# Altium footprint library Movandi_10.PcbLib: 10 footprints
Each footprint in its own frame and in the unit in brackets; x right, y up, seen from the top. Pads: shape width x height; smd on the part's side, far side on the other; paste and mask are expansions set on the pad; w line width, h text height; cw(c..) or ccw(c..) is an arc to the next point about the centre after c.
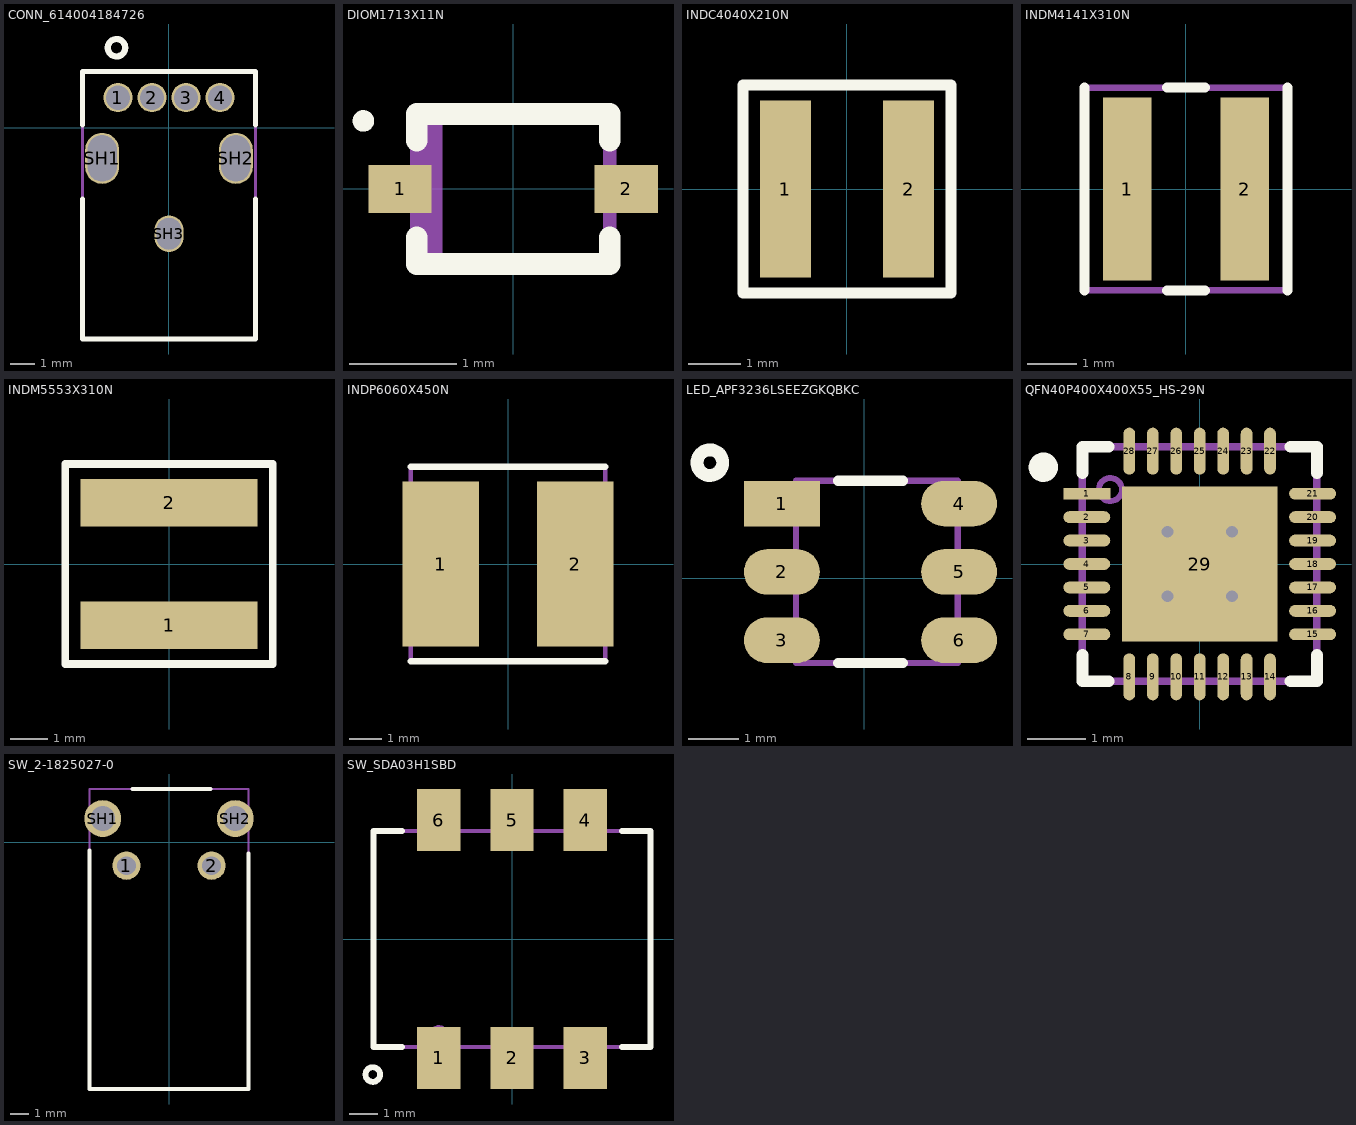
[diagram p0: the footprints below, top view; thin cyan lines are the x and y axes]

## CONN_614004184726 [mm]
height 14.2
pads (7):
  round 1.2 hole 1: 1(-2.1,1.25) 2(-0.7,1.25) 3(0.7,1.25) 4(2.1,1.25)
  oval 1.4x2.1 hole 1.2 slot 1.9 at 90 deg: SH1(-2.75,-1.25) SH2(2.75,-1.25)
  oval 1.2x1.5 hole 1 slot 1.3 at 90 deg: SH3(0,-4.35)
Top Overlay:
  circle w0.254: c-2.159,3.302 r0.359
  lines w0.203: -3.559,-2.921 -3.559,-8.682 3.559,-8.682 3.559,-2.921 ; -3.559,0.127 -3.559,2.318 3.559,2.318 3.559,0.127
Outline:
  text "'.Designator'" at 0,0.191 h1.02
Courtyard Top:
  circle w0.254: c-2.1,1.25 r0.359
  lines w0.127: -3.559,-8.682 3.559,-8.682 3.559,2.318 -3.559,2.318 -3.559,-8.682
3D body: height 14.15, standoff -2.89, extent -3.559,-8.682 3.559,2.318

## DIOM1713X11N [mm] "Molded Diode, 2-Leads, Body 1.70x1.30mm, IPC Medium Density"
height 1.1
pads (2):
  rect 0.59x0.45 smd: 1(-1.055,0) 2(1.055,0)
Top Overlay:
  circle w0.1: c-1.397,0.635 r0.05
  lines w0.203: -0.9,-0.452 -0.9,-0.7 0.9,-0.7 0.9,-0.452 ; -0.9,0.452 -0.9,0.7 0.9,0.7 0.9,0.452
Outline:
  text "'.Designator'" at 0,0.191 h1.02
Courtyard Top:
  circle w0.1: c-1.055,0 r0.05
  rectangle: -0.9,-0.7 -0.658,0.7
  lines w0.127: -0.9,-0.7 0.9,-0.7 0.9,0.7 -0.9,0.7 -0.9,-0.7
3D body: height 1.1, standoff 0, extent -1.12,-0.7 1.12,0.7

## INDC4040X210N [mm]
height 2.1
pads (2):
  rect 0.98x3.4 smd: 1(-1.185,0) 2(1.185,0)
Top Overlay:
  lines w0.203: -2,-2 -2,2 2,2 2,-2 -2,-2
Outline:
  text ".Designator" at 0,0 h1.52
Courtyard Top:
  lines w0.127: -2,-2 0,-2 2,-2 2,0 2,2 0,2 -2,2 -2,0 -2,-2
3D body: height 2.1, standoff 0, extent -2,-2 2,2

## INDM4141X310N [mm]
height 3.1
pads (2):
  rect 0.98x3.7 smd mask+0.102: 1(-1.185,0) 2(1.185,0)
Top Overlay:
  lines w0.203: -2.05,-2.05 -2.05,2.05 ; -0.381,-2.05 0.381,-2.05 ; -0.381,2.05 0.381,2.05 ; 2.05,-2.05 2.05,2.05
Outline:
  text "'.Designator'" at 0,0 h1.52
Courtyard Top:
  lines w0.127: -2.05,-2.05 -2.05,0 -2.05,2.05 0,2.05 2.05,2.05 2.05,0 2.05,-2.05 0,-2.05 -2.05,-2.05
3D body: height 3.1, standoff 0, extent -2.05,-2.05 2.05,2.05

## INDM5553X310N [mm]
height 2.9
pads (2):
  rect 4.7x1.25 smd: 1(0,-1.625) 2(0,1.625)
Top Overlay:
  lines w0.203: -2.75,-2.65 2.75,-2.65 2.75,2.65 -2.75,2.65 -2.75,-2.65
Outline:
  text ".Designator" at 0,0 h1.52
Courtyard Top:
  lines w0.127: -2.75,-2.65 0,-2.65 2.75,-2.65 2.75,0 2.75,2.65 0,2.65 -2.75,2.65 -2.75,0 -2.75,-2.65
3D body: height 3.1, standoff 0, extent -2.75,-2.65 2.75,2.65

## INDP6060X450N [mm]
height 4.5
pads (2):
  rect 2.35x5.1 smd mask+0.102: 1(-2.075,0) 2(2.075,0)
Top Overlay:
  lines w0.203: -3,-3 3,-3 ; -3,3 3,3
Outline:
  text "'.Designator'" at 0,0 h1.52
Courtyard Top:
  lines w0.127: -3,-3 -3,0 -3,3 0,3 3,3 3,0 3,-3 0,-3 -3,-3
3D body: height 4.5, standoff 0, extent -3,-3 3,3

## LED_APF3236LSEEZGKQBKC [mm]
height 1.1
pads (6):
  rect 1.5x0.9 smd: 1(-1.623,1.477)
  oval 1.5x0.9 smd: 2(-1.623,0.127) 3(-1.623,-1.223) 4(1.877,1.477) 5(1.877,0.127) 6(1.877,-1.223)
Top Overlay:
  circle w0.254: c-3.048,2.286 r0.254
  lines w0.203: -0.508,-1.673 0.762,-1.673 ; -0.508,1.927 0.762,1.927
Outline:
  text "'.Designator'" at 0,0.191 h1.02
Courtyard Top:
  circle w0.254: c-1.778,1.524 r0.254
  lines w0.127: -1.346,-1.673 1.854,-1.673 1.854,1.927 -1.346,1.927 -1.346,-1.673
3D body: height 1.05, standoff -0.05, extent -1.346,-1.673 1.854,1.927

## QFN40P400X400X55_HS-29N [mm] "QFN, 28-Leads, Body 4.00x4.00mm, Pitch 0.40mm, Thermal Pad 2.65x2.65mm, IPC Medium Density"
height 0.55
pads (29):
  rect 0.8x0.2 smd mask+0.051: 1(-1.925,1.2)
  oval 0.8x0.2 smd mask+0.051: 2(-1.925,0.8) 3(-1.925,0.4) 4(-1.925,0) 5(-1.925,-0.4) 6(-1.925,-0.8) 7(-1.925,-1.2) 15(1.925,-1.2) 16(1.925,-0.8) 17(1.925,-0.4) 18(1.925,0) 19(1.925,0.4) 20(1.925,0.8) 21(1.925,1.2)
  oval 0.2x0.8 smd mask+0.051: 8(-1.2,-1.925) 9(-0.8,-1.925) 10(-0.4,-1.925) 11(0,-1.925) 12(0.4,-1.925) 13(0.8,-1.925) 14(1.2,-1.925) 22(1.2,1.925) 23(0.8,1.925) 24(0.4,1.925) 25(0,1.925) 26(-0.4,1.925) 27(-0.8,1.925) 28(-1.2,1.925)
  rect 2.65x2.65 smd paste-141.097 mask+0.051: 29(0,0)
via -0.55,0.55 diameter 0.5 hole 0.2
via 0.55,0.55 diameter 0.5 hole 0.2
via -0.55,-0.55 diameter 0.5 hole 0.2
via 0.55,-0.55 diameter 0.5 hole 0.2
Top Overlay:
  circle w0.25: c-2.667,1.651 r0.125
  lines w0.203: -2,-1.552 -2,-2 -1.552,-2 ; -2,1.552 -2,2 -1.552,2 ; 1.552,-2 2,-2 2,-1.552 ; 1.552,2 2,2 2,1.552
Outline:
  text "'.Designator'" at 0,0.191 h1.02
Courtyard Top:
  circle w0.1: c-1.524,1.27 r0.197
  lines w0.127: -2,-2 -2,2 2,2 2,-2 -2,-2
3D body: height 0.55, standoff 0, extent -2.05,-2.05 2.05,2.05

## SW_2-1825027-0 [mm]
height 7.01
pads (4):
  round 1.498 hole 0.99: 1(-2.25,-1.245) 2(2.25,-1.245)
  round 1.95 hole 1.3: SH1(-3.505,1.245) SH2(3.505,1.245)
Top Overlay:
  lines w0.203: -4.204,-0.433 -4.204,-13.055 4.204,-13.055 4.204,-0.593 ; -1.94,2.807 2.2,2.807
Outline:
  text "'.Designator'" at 0,0.191 h1.02
Courtyard Top:
  lines w0.127: -4.204,-13.055 -4.204,2.807 4.204,2.807 4.204,-13.055 -4.204,-13.055
3D body: height 7, standoff -3.52, extent -4.204,-13.055 4.204,2.807

## SW_SDA03H1SBD [mm]
height 4.45
pads (6):
  rect 1.5x2.15 smd: 1(-2.54,-4.125) 2(0,-4.125) 3(2.54,-4.125) 4(2.54,4.125) 5(0,4.125) 6(-2.54,4.125)
Top Overlay:
  circle w0.203: c-4.826,-4.699 r0.254
  lines w0.203: -3.81,-3.745 -4.8,-3.745 -4.8,3.745 -3.81,3.745 ; 3.81,-3.745 4.8,-3.745 4.8,3.745 3.81,3.745
Outline:
  text ".Designator" at 0,0 h1.52
Courtyard Top:
  circle w0.127: c-2.54,-3.302 r0.254
  lines w0.127: -4.8,-3.745 0,-3.745 4.8,-3.745 4.8,0 4.8,3.745 0,3.745 -4.8,3.745 -4.8,0 -4.8,-3.745
3D body: height 4.45, standoff 0, extent -4.8,-3.745 4.8,3.745